# EAGLE library part 653109131822 (library WR-WTB)
WR-WTB 1.25 mm SMT Male Vertical Shrouded Header Material Properties Insulator Material PA9T Insulator Flammability Rating UL94 V-0 Insulator Color Ivory Color Ivory Contact Material Copper Alloy Contact Plating Tin Contact Type Stamped Certification UL Approval E323964 General Information Operating Temperature -40 °C up to +85 °C IR 1 Working Voltage 125 V (AC) Withstanding Voltage 250 V (AC) Contact Resistance 20 mΩ RISO 100 MΩ Pitch 1.25 mm Gender Male Type Horizontal Packaging Properties Packaging Tape and Reel Details see: www.we-online.com/en/components/products/WTB_1_25_SMT_MALE_HORIZONTAL_SHROUDED_HEADER_6531XX131822 Updated by Ella 2025-03-06 2025 (C) Würth Elektronik
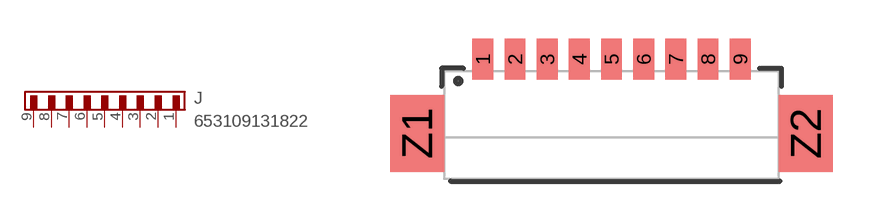
[diagram p53: symbol with the pads of 653109131822; footprint 653109131822]

Designator prefix J

## 653109131822 (CONTACT-RESISTANCE: 20mOhm; DATASHEET: https://www.we-online.com/redexpert/spec/653109131822?ae; GENDER: Male; IR: 1A; L: 16mm; MOUNT: SMT; PACKAGING: Tape and Reel; PART-NUMBER: 653109131822; PCB-CABLE-PANEL: PCB; PINS: 9; PITCH: 1.25mm; TYPE: Horizontal; VALUE: 653109131822; WORKING-VOLTAGE: 125V(AC))  [653109131822]
1  1  pas
2  2  pas
3  3  pas
4  4  pas
5  5  pas
6  6  pas
7  7  pas
8  8  pas
9  9  pas

## Footprint 653109131822 (pad centres in mm)
WR-WTB 1.25 mm SMT Male Horizontal Shrouded Header, 9 Pins
smd 0.81 x 1.6: 1 -5,2.56; 2 -3.75,2.56; 3 -2.5,2.56; 4 -1.25,2.56; 5 0,2.56; 6 1.25,2.56; 7 2.5,2.56; 8 3.75,2.56; 9 5,2.56
smd 2.1 x 3: Z1 -7.55,-0.34; Z2 7.55,-0.34